# Altium footprint library CONNECTOR.PCBLIB: 232 footprints (part 8 of 15)
Each footprint in its own frame and in the unit in brackets; x right, y up, seen from the top. Pads: shape width x height; smd on the part's side, far side on the other; paste and mask are expansions set on the pad; w line width, h text height; cw(c..) or ccw(c..) is an arc to the next point about the centre after c.
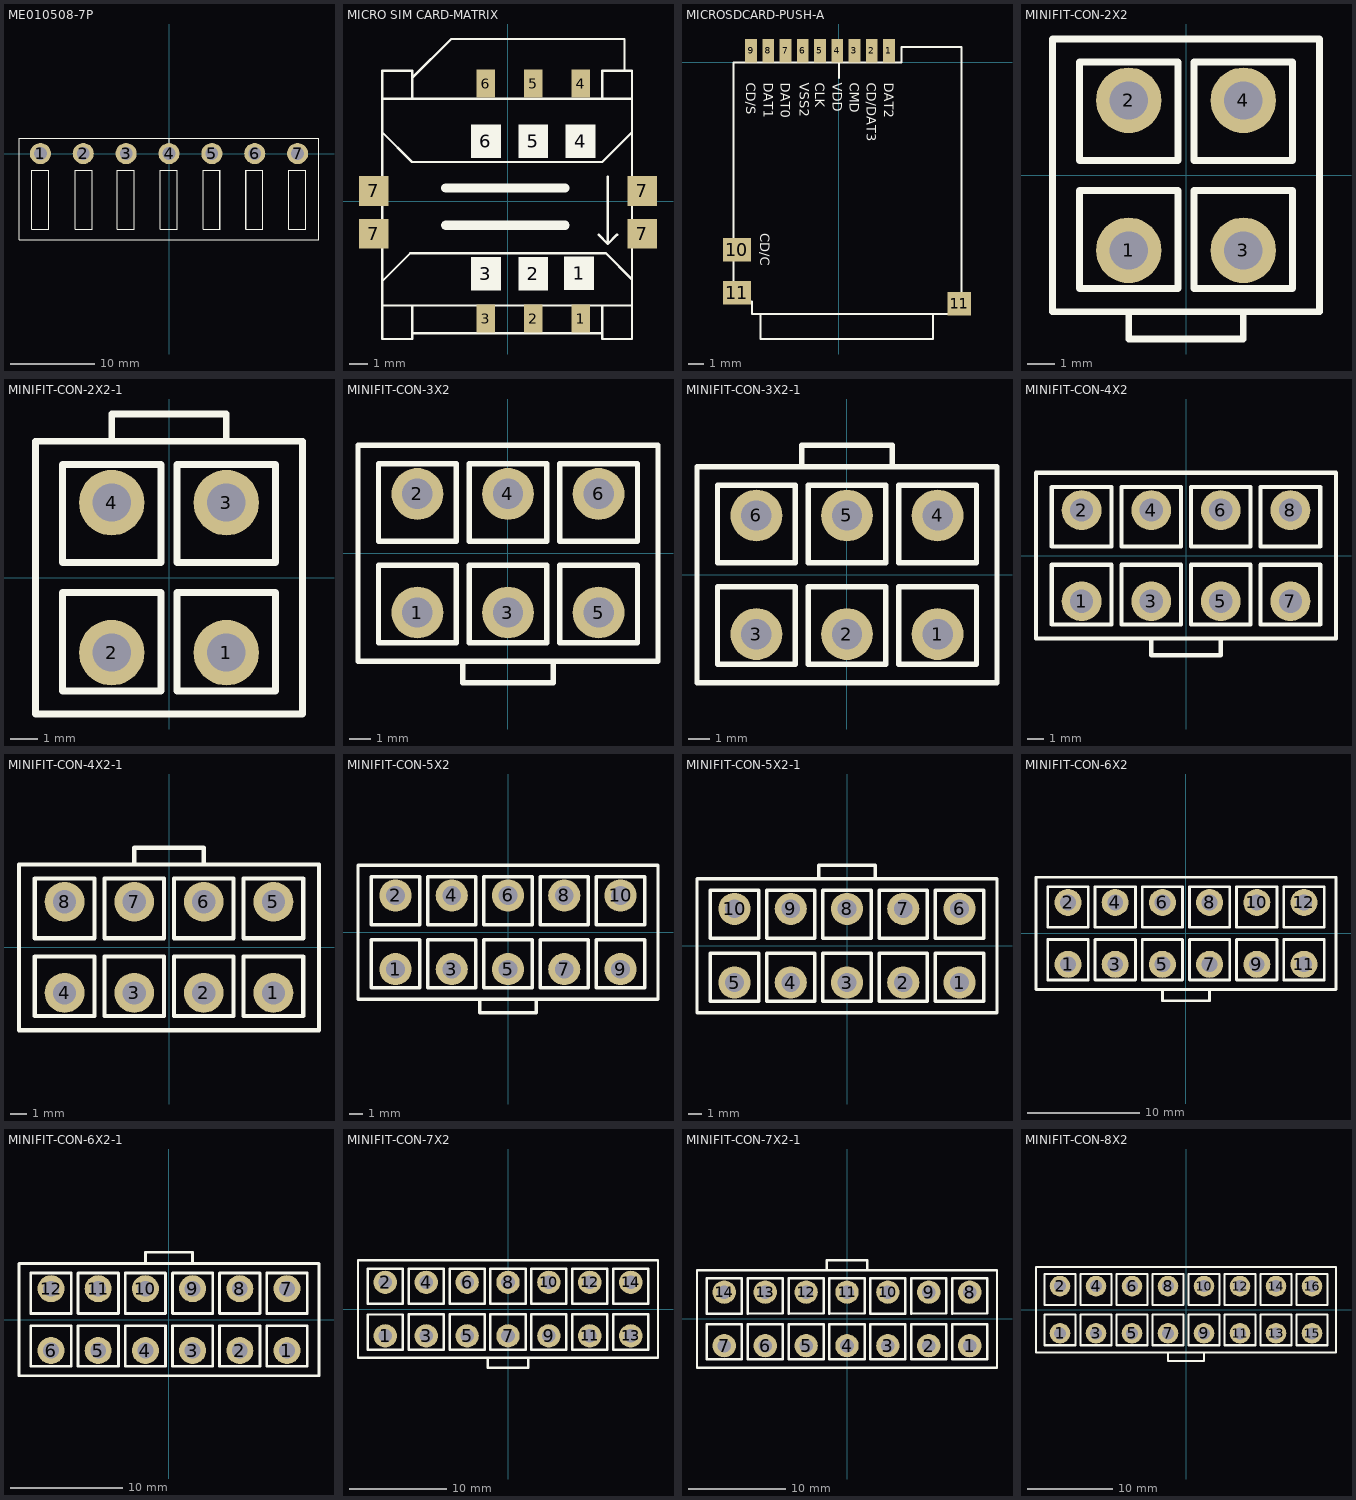
[diagram p7: the footprints below, top view; thin cyan lines are the x and y axes]

## ME010508-7P [mm]
pads (7):
  round 2.5 hole 1.5: 1(-15.24,0) 2(-10.16,0) 3(-5.08,0) 4(0,0) 5(5.08,0) 6(10.16,0) 7(15.24,0)
TopOverlay:
  lines w0.127: 0,0 0,1.8 ; -17.78,-10.2 17.78,-10.2 17.78,1.8 -17.78,1.8 -17.78,-10.2 ; -16.24,-9 -16.24,-2 -14.24,-2 -14.24,-9 -16.24,-9 ; -11.12,-9 -11.12,-2 -9.12,-2 -9.12,-9 -11.12,-9 ; -6.12,-9 -6.12,-2 -4.12,-2 -4.12,-9 -6.12,-9 ; -1.04,-9 -1.04,-2 0.96,-2 0.96,-9 -1.04,-9 ; -1.02,-9 -1.02,-2 0.98,-2 0.98,-9 -1.02,-9 ; 4.04,-9 4.04,-2 6.04,-2 6.04,-9 4.04,-9 ; 4.06,-9 4.06,-2 6.06,-2 6.06,-9 4.06,-9 ; 9.12,-9 9.12,-2 11.12,-2 11.12,-9 9.12,-9 ; 9.14,-9 9.14,-2 11.14,-2 11.14,-9 9.14,-9 ; 14.22,-9 14.22,-2 16.22,-2 16.22,-9 14.22,-9

## MICRO SIM CARD-MATRIX [mm]
pads (16):
  rect 1.6x1.8 on Top Overlay: 1(3.815,-3.86) 2(1.355,-3.9) 3(-1.185,-3.9) 4(3.895,3.22) 5(1.355,3.22) 6(-1.185,3.22)
  rect 1x1.5 smd: 1(3.895,-6.3) 2(1.355,-6.3) 3(-1.185,-6.3) 4(3.895,6.3) 5(1.355,6.3) 6(-1.185,6.3)
  rect 1.6x1.6 smd: 7(-7.205,-1.75) 7(-7.205,0.55) 7(7.205,-1.75) 7(7.205,0.55)
TopOverlay:
  lines w0.127: -6.745,-4.3 -5.245,-2.8 5.255,-2.8 6.655,-4.2 ; -6.745,3.7 -5.145,2.1 5.055,2.1 6.655,3.7 ; -5.145,-7.1 5.055,-7.1 ; -5.145,-5.6 -5.145,-7.4 -6.745,-7.4 -6.745,-5.6 ; -5.145,5.5 -5.145,7 -6.745,7 -6.745,5.5 ; -5.145,6.6 -3.045,8.7 6.255,8.7 6.255,7 ; 4.855,-1.8 5.355,-2.3 ; 5.055,-5.6 5.055,-7.4 6.655,-7.4 6.655,-5.6 ; 5.055,5.5 5.055,7 6.655,7 6.655,5.5 ; 5.355,1.3 5.355,-2.3 ; 5.855,-1.8 5.355,-2.3 ; -6.745,-5.6 6.655,-5.6 ; -6.745,-5.6 -6.745,5.5 ; -6.745,5.5 6.655,5.5 ; 6.655,-5.6 6.655,5.5
  lines w0.5: -3.345,-1.3 3.055,-1.3 ; -3.345,0.7 3.055,0.7

## MICROSDCARD-PUSH-A [mm]
pads (12):
  rect 0.75x1.5 smd: 1(3.2,0.75) 2(2.1,0.75) 3(1,0.75) 4(-0.1,0.75) 5(-1.2,0.75) 6(-2.3,0.75) 7(-3.4,0.75) 8(-4.5,0.75) 9(-5.6,0.75)
  rect 1.8x1.5 smd: 10(-6.5,-11.95) 11(-6.5,-14.7)
  rect 1.5x1.5 smd: 11(7.7,-15.4)
TopOverlay:
  lines w0.127: -6.725,-0.025 -6.725,-15.25 -5.525,-15.25 -5.525,-16.05 7.825,-16.05 7.825,1 4,1 4,0 -6.725,0 ; -5,-16.05 -5,-17.65 6,-17.65 6,-16.05 ; 0,-1 0,0
  text "DAT2" at 2.9,-1.3 h0.6
  text "CD/C" at -5,-10.9 h0.6
  text "CD/S" at -5.9,-1.3 h0.6
  text "DAT1" at -4.8,-1.3 h0.6
  text "DAT0" at -3.7,-1.3 h0.6
  text "VSS2" at -2.5,-1.3 h0.6
  text "CLK" at -1.5,-1.3 h0.6
  text "VDD" at -0.4,-1.3 h0.6
  text "CMD" at 0.7,-1.3 h0.6
  text "CD/DAT3" at 1.8,-1.3 h0.6

## MINIFIT-CON-2X2 [mm]
pads (4):
  round 2.4 hole 1.4: 1(-2.1,-2.75) 2(-2.1,2.75) 3(2.1,-2.75) 4(2.1,2.75)
TopOverlay:
  lines w0.254: -2.1,-5 -2.1,-6 2.1,-6 2.1,-5 ; -4.9,-5 -4.9,5 4.9,5 4.9,-5 -4.9,-5 ; -3.9,-4.15 -0.3,-4.15 -0.3,-0.55 -3.9,-0.55 -3.9,-4.15 ; -3.9,0.55 -0.3,0.55 -0.3,4.15 -3.9,4.15 -3.9,0.55 ; 0.3,-4.15 3.9,-4.15 3.9,-0.55 0.3,-0.55 0.3,-4.15 ; 0.3,0.55 3.9,0.55 3.9,4.15 0.3,4.15 0.3,0.55

## MINIFIT-CON-2X2-1 [mm]
pads (4):
  round 2.4 hole 1.4: 1(2.1,-2.75) 2(-2.1,-2.75) 3(2.1,2.75) 4(-2.1,2.75)
TopOverlay:
  lines w0.254: -2.1,5 -2.1,6 2.1,6 2.1,5 ; -4.9,-5 4.9,-5 4.9,5 -4.9,5 -4.9,-5 ; -3.9,-4.15 -3.9,-0.55 -0.3,-0.55 -0.3,-4.15 -3.9,-4.15 ; -3.9,0.55 -3.9,4.15 -0.3,4.15 -0.3,0.55 -3.9,0.55 ; 0.3,-4.15 0.3,-0.55 3.9,-0.55 3.9,-4.15 0.3,-4.15 ; 0.3,0.55 0.3,4.15 3.9,4.15 3.9,0.55 0.3,0.55

## MINIFIT-CON-3X2 [mm]
pads (6):
  round 2.4 hole 1.4: 1(-4.2,-2.75) 2(-4.2,2.75) 3(0,-2.75) 4(0,2.75) 5(4.2,-2.75) 6(4.2,2.75)
TopOverlay:
  lines w0.254: -2.1,-5 -2.1,-6 2.1,-6 2.1,-5 ; -6.95,-5 6.95,-5 6.95,5 -6.95,5 -6.95,-5 ; -6,-4.15 -6,-0.55 -2.4,-0.55 -2.4,-4.15 -6,-4.15 ; -6,0.55 -6,4.15 -2.4,4.15 -2.4,0.55 -6,0.55 ; -1.8,-4.15 -1.8,-0.55 1.8,-0.55 1.8,-4.15 -1.8,-4.15 ; -1.8,0.55 -1.8,4.15 1.8,4.15 1.8,0.55 -1.8,0.55 ; 2.4,-4.15 2.4,-0.55 6,-0.55 6,-4.15 2.4,-4.15 ; 2.4,0.55 2.4,4.15 6,4.15 6,0.55 2.4,0.55

## MINIFIT-CON-3X2-1 [mm]
pads (6):
  round 2.4 hole 1.4: 1(4.2,-2.75) 2(0,-2.75) 3(-4.2,-2.75) 4(4.2,2.75) 5(0,2.75) 6(-4.2,2.75)
TopOverlay:
  lines w0.254: -2.1,5 -2.1,6 2.1,6 2.1,5 ; -6.95,-5 6.95,-5 6.95,5 -6.95,5 -6.95,-5 ; -6,-4.15 -6,-0.55 -2.4,-0.55 -2.4,-4.15 -6,-4.15 ; -6,0.55 -6,4.15 -2.4,4.15 -2.4,0.55 -6,0.55 ; -1.8,-4.15 -1.8,-0.55 1.8,-0.55 1.8,-4.15 -1.8,-4.15 ; -1.8,0.55 -1.8,4.15 1.8,4.15 1.8,0.55 -1.8,0.55 ; 2.4,-4.15 2.4,-0.55 6,-0.55 6,-4.15 2.4,-4.15 ; 2.4,0.55 2.4,4.15 6,4.15 6,0.55 2.4,0.55

## MINIFIT-CON-4X2 [mm]
pads (8):
  round 2.4 hole 1.4: 1(-6.3,-2.75) 2(-6.3,2.75) 3(-2.1,-2.75) 4(-2.1,2.75) 5(2.1,-2.75) 6(2.1,2.75) 7(6.3,-2.75) 8(6.3,2.75)
TopOverlay:
  lines w0.254: -2.1,-5 -2.1,-6 2.1,-6 2.1,-5 ; -9.05,-5 9.05,-5 9.05,5 -9.05,5 -9.05,-5 ; -8.1,-4.15 -8.1,-0.55 -4.5,-0.55 -4.5,-4.15 -8.1,-4.15 ; -8.1,0.55 -8.1,4.15 -4.5,4.15 -4.5,0.55 -8.1,0.55 ; -3.9,-4.15 -3.9,-0.55 -0.3,-0.55 -0.3,-4.15 -3.9,-4.15 ; -3.9,0.55 -3.9,4.15 -0.3,4.15 -0.3,0.55 -3.9,0.55 ; 0.3,-4.15 0.3,-0.55 3.9,-0.55 3.9,-4.15 0.3,-4.15 ; 0.3,0.55 0.3,4.15 3.9,4.15 3.9,0.55 0.3,0.55 ; 4.5,-4.15 4.5,-0.55 8.1,-0.55 8.1,-4.15 4.5,-4.15 ; 4.5,0.55 4.5,4.15 8.1,4.15 8.1,0.55 4.5,0.55

## MINIFIT-CON-4X2-1 [mm]
pads (8):
  round 2.4 hole 1.4: 1(6.3,-2.75) 2(2.1,-2.75) 3(-2.1,-2.75) 4(-6.3,-2.75) 5(6.3,2.75) 6(2.1,2.75) 7(-2.1,2.75) 8(-6.3,2.75)
TopOverlay:
  lines w0.254: -2.1,5 -2.1,6 2.1,6 2.1,5 ; -9.05,-5 9.05,-5 9.05,5 -9.05,5 -9.05,-5 ; -8.1,-4.15 -8.1,-0.55 -4.5,-0.55 -4.5,-4.15 -8.1,-4.15 ; -8.1,0.55 -8.1,4.15 -4.5,4.15 -4.5,0.55 -8.1,0.55 ; -3.9,-4.15 -3.9,-0.55 -0.3,-0.55 -0.3,-4.15 -3.9,-4.15 ; -3.9,0.55 -3.9,4.15 -0.3,4.15 -0.3,0.55 -3.9,0.55 ; 0.3,-4.15 0.3,-0.55 3.9,-0.55 3.9,-4.15 0.3,-4.15 ; 0.3,0.55 0.3,4.15 3.9,4.15 3.9,0.55 0.3,0.55 ; 4.5,-4.15 4.5,-0.55 8.1,-0.55 8.1,-4.15 4.5,-4.15 ; 4.5,0.55 4.5,4.15 8.1,4.15 8.1,0.55 4.5,0.55

## MINIFIT-CON-5X2 [mm]
pads (10):
  round 2.4 hole 1.4: 1(-8.4,-2.75) 2(-8.4,2.75) 3(-4.2,-2.75) 4(-4.2,2.75) 5(0,-2.75) 6(0,2.75) 7(4.2,-2.75) 8(4.2,2.75) 9(8.4,-2.75) 10(8.4,2.75)
TopOverlay:
  lines w0.254: -2.1,-5 -2.1,-6 2.1,-6 2.1,-5 ; -11.2,-5 -11.2,5 11.2,5 11.2,-5 -11.2,-5 ; -10.2,-4.15 -6.6,-4.15 -6.6,-0.55 -10.2,-0.55 -10.2,-4.15 ; -10.2,0.55 -6.6,0.55 -6.6,4.15 -10.2,4.15 -10.2,0.55 ; -6,-4.15 -2.4,-4.15 -2.4,-0.55 -6,-0.55 -6,-4.15 ; -6,0.55 -2.4,0.55 -2.4,4.15 -6,4.15 -6,0.55 ; -1.8,-4.15 1.8,-4.15 1.8,-0.55 -1.8,-0.55 -1.8,-4.15 ; -1.8,0.55 1.8,0.55 1.8,4.15 -1.8,4.15 -1.8,0.55 ; 2.4,-4.15 6,-4.15 6,-0.55 2.4,-0.55 2.4,-4.15 ; 2.4,0.55 6,0.55 6,4.15 2.4,4.15 2.4,0.55 ; 6.6,-4.15 10.2,-4.15 10.2,-0.55 6.6,-0.55 6.6,-4.15 ; 6.6,0.55 6.6,4.15 10.2,4.15 10.2,0.55 6.6,0.55

## MINIFIT-CON-5X2-1 [mm]
pads (10):
  round 2.4 hole 1.4: 1(8.4,-2.75) 2(4.2,-2.75) 3(0,-2.75) 4(-4.2,-2.75) 5(-8.4,-2.75) 6(8.4,2.75) 7(4.2,2.75) 8(0,2.75) 9(-4.2,2.75) 10(-8.4,2.75)
TopOverlay:
  lines w0.254: -2.1,5 -2.1,6 2.1,6 2.1,5 ; -11.2,-5 -11.2,5 11.2,5 11.2,-5 -11.2,-5 ; -10.2,-4.15 -6.6,-4.15 -6.6,-0.55 -10.2,-0.55 -10.2,-4.15 ; -10.2,0.55 -6.6,0.55 -6.6,4.15 -10.2,4.15 -10.2,0.55 ; -6,-4.15 -2.4,-4.15 -2.4,-0.55 -6,-0.55 -6,-4.15 ; -6,0.55 -2.4,0.55 -2.4,4.15 -6,4.15 -6,0.55 ; -1.8,-4.15 1.8,-4.15 1.8,-0.55 -1.8,-0.55 -1.8,-4.15 ; -1.8,0.55 1.8,0.55 1.8,4.15 -1.8,4.15 -1.8,0.55 ; 2.4,-4.15 6,-4.15 6,-0.55 2.4,-0.55 2.4,-4.15 ; 2.4,0.55 6,0.55 6,4.15 2.4,4.15 2.4,0.55 ; 6.6,-4.15 10.2,-4.15 10.2,-0.55 6.6,-0.55 6.6,-4.15 ; 6.6,0.55 6.6,4.15 10.2,4.15 10.2,0.55 6.6,0.55

## MINIFIT-CON-6X2 [mm]
pads (12):
  round 2.4 hole 1.4: 1(-10.5,-2.75) 2(-10.5,2.75) 3(-6.3,-2.75) 4(-6.3,2.75) 5(-2.1,-2.75) 6(-2.1,2.75) 7(2.1,-2.75) 8(2.1,2.75) 9(6.3,-2.75) 10(6.3,2.75) 11(10.5,-2.75) 12(10.5,2.75)
TopOverlay:
  lines w0.254: -2.1,-5 -2.1,-6 2.1,-6 2.1,-5 ; -13.35,-5 13.35,-5 13.35,5 -13.35,5 -13.35,-5 ; -12.3,-4.15 -12.3,-0.55 -8.7,-0.55 -8.7,-4.15 -12.3,-4.15 ; -12.3,0.55 -12.3,4.15 -8.7,4.15 -8.7,0.55 -12.3,0.55 ; -8.1,-4.15 -8.1,-0.55 -4.5,-0.55 -4.5,-4.15 -8.1,-4.15 ; -8.1,0.55 -8.1,4.15 -4.5,4.15 -4.5,0.55 -8.1,0.55 ; -3.9,-4.15 -3.9,-0.55 -0.3,-0.55 -0.3,-4.15 -3.9,-4.15 ; -3.9,0.55 -3.9,4.15 -0.3,4.15 -0.3,0.55 -3.9,0.55 ; 0.3,-4.15 0.3,-0.55 3.9,-0.55 3.9,-4.15 0.3,-4.15 ; 0.3,0.55 0.3,4.15 3.9,4.15 3.9,0.55 0.3,0.55 ; 4.5,-4.15 4.5,-0.55 8.1,-0.55 8.1,-4.15 4.5,-4.15 ; 4.5,0.55 8.1,0.55 8.1,4.15 4.5,4.15 4.5,0.55 ; 8.7,-4.15 8.7,-0.55 12.3,-0.55 12.3,-4.15 8.7,-4.15 ; 8.7,0.55 8.7,4.15 12.3,4.15 12.3,0.55 8.7,0.55

## MINIFIT-CON-6X2-1 [mm]
pads (12):
  round 2.4 hole 1.4: 1(10.5,-2.75) 2(6.3,-2.75) 3(2.1,-2.75) 4(-2.1,-2.75) 5(-6.3,-2.75) 6(-10.5,-2.75) 7(10.5,2.75) 8(6.3,2.75) 9(2.1,2.75) 10(-2.1,2.75) 11(-6.3,2.75) 12(-10.5,2.75)
TopOverlay:
  lines w0.254: -2.1,5 -2.1,6 2.1,6 2.1,5 ; -13.35,-5 -13.35,5 13.35,5 13.35,-5 -13.35,-5 ; -12.3,-4.15 -8.7,-4.15 -8.7,-0.55 -12.3,-0.55 -12.3,-4.15 ; -12.3,0.55 -8.7,0.55 -8.7,4.15 -12.3,4.15 -12.3,0.55 ; -8.1,-4.15 -4.5,-4.15 -4.5,-0.55 -8.1,-0.55 -8.1,-4.15 ; -8.1,0.55 -4.5,0.55 -4.5,4.15 -8.1,4.15 -8.1,0.55 ; -3.9,-4.15 -0.3,-4.15 -0.3,-0.55 -3.9,-0.55 -3.9,-4.15 ; -3.9,0.55 -0.3,0.55 -0.3,4.15 -3.9,4.15 -3.9,0.55 ; 0.3,-4.15 3.9,-4.15 3.9,-0.55 0.3,-0.55 0.3,-4.15 ; 0.3,0.55 3.9,0.55 3.9,4.15 0.3,4.15 0.3,0.55 ; 4.5,-4.15 8.1,-4.15 8.1,-0.55 4.5,-0.55 4.5,-4.15 ; 4.5,0.55 4.5,4.15 8.1,4.15 8.1,0.55 4.5,0.55 ; 8.7,-4.15 12.3,-4.15 12.3,-0.55 8.7,-0.55 8.7,-4.15 ; 8.7,0.55 12.3,0.55 12.3,4.15 8.7,4.15 8.7,0.55

## MINIFIT-CON-7X2 [mm]
pads (14):
  round 2.4 hole 1.4: 1(-12.6,-2.75) 2(-12.6,2.75) 3(-8.4,-2.75) 4(-8.4,2.75) 5(-4.2,-2.75) 6(-4.2,2.75) 7(0,-2.75) 8(0,2.75) 9(4.2,-2.75) 10(4.2,2.75) 11(8.4,-2.75) 12(8.4,2.75) 13(12.6,-2.75) 14(12.6,2.75)
TopOverlay:
  lines w0.254: -2.1,-5 -2.1,-6 2.1,-6 2.1,-5 ; -15.4,-5 15.4,-5 15.4,5 -15.4,5 -15.4,-5 ; -14.4,-4.15 -14.4,-0.55 -10.8,-0.55 -10.8,-4.15 -14.4,-4.15 ; -14.4,0.55 -14.4,4.15 -10.8,4.15 -10.8,0.55 -14.4,0.55 ; -10.2,-4.15 -10.2,-0.55 -6.6,-0.55 -6.6,-4.15 -10.2,-4.15 ; -10.2,0.55 -10.2,4.15 -6.6,4.15 -6.6,0.55 -10.2,0.55 ; -6,-4.15 -6,-0.55 -2.4,-0.55 -2.4,-4.15 -6,-4.15 ; -6,0.55 -6,4.15 -2.4,4.15 -2.4,0.55 -6,0.55 ; -1.8,-4.15 -1.8,-0.55 1.8,-0.55 1.8,-4.15 -1.8,-4.15 ; -1.8,0.55 -1.8,4.15 1.8,4.15 1.8,0.55 -1.8,0.55 ; 2.4,-4.15 2.4,-0.55 6,-0.55 6,-4.15 2.4,-4.15 ; 2.4,0.55 6,0.55 6,4.15 2.4,4.15 2.4,0.55 ; 6.6,-4.15 6.6,-0.55 10.2,-0.55 10.2,-4.15 6.6,-4.15 ; 6.6,0.55 6.6,4.15 10.2,4.15 10.2,0.55 6.6,0.55 ; 10.8,-4.15 10.8,-0.55 14.4,-0.55 14.4,-4.15 10.8,-4.15 ; 10.8,0.55 10.8,4.15 14.4,4.15 14.4,0.55 10.8,0.55

## MINIFIT-CON-7X2-1 [mm]
pads (14):
  round 2.4 hole 1.4: 1(12.6,-2.75) 2(8.4,-2.75) 3(4.2,-2.75) 4(0,-2.75) 5(-4.2,-2.75) 6(-8.4,-2.75) 7(-12.6,-2.75) 8(12.6,2.75) 9(8.4,2.75) 10(4.2,2.75) 11(0,2.75) 12(-4.2,2.75) 13(-8.4,2.75) 14(-12.6,2.75)
TopOverlay:
  lines w0.254: -2.1,5 -2.1,6 2.1,6 2.1,5 ; -15.4,-5 -15.4,5 15.4,5 15.4,-5 -15.4,-5 ; -14.4,-4.15 -10.8,-4.15 -10.8,-0.55 -14.4,-0.55 -14.4,-4.15 ; -14.4,0.55 -10.8,0.55 -10.8,4.15 -14.4,4.15 -14.4,0.55 ; -10.2,-4.15 -6.6,-4.15 -6.6,-0.55 -10.2,-0.55 -10.2,-4.15 ; -10.2,0.55 -6.6,0.55 -6.6,4.15 -10.2,4.15 -10.2,0.55 ; -6,-4.15 -2.4,-4.15 -2.4,-0.55 -6,-0.55 -6,-4.15 ; -6,0.55 -2.4,0.55 -2.4,4.15 -6,4.15 -6,0.55 ; -1.8,-4.15 1.8,-4.15 1.8,-0.55 -1.8,-0.55 -1.8,-4.15 ; -1.8,0.55 1.8,0.55 1.8,4.15 -1.8,4.15 -1.8,0.55 ; 2.4,-4.15 6,-4.15 6,-0.55 2.4,-0.55 2.4,-4.15 ; 2.4,0.55 2.4,4.15 6,4.15 6,0.55 2.4,0.55 ; 6.6,-4.15 10.2,-4.15 10.2,-0.55 6.6,-0.55 6.6,-4.15 ; 6.6,0.55 10.2,0.55 10.2,4.15 6.6,4.15 6.6,0.55 ; 10.8,-4.15 14.4,-4.15 14.4,-0.55 10.8,-0.55 10.8,-4.15 ; 10.8,0.55 14.4,0.55 14.4,4.15 10.8,4.15 10.8,0.55

## MINIFIT-CON-8X2 [mm]
pads (16):
  round 2.4 hole 1.4: 1(-14.7,-2.75) 2(-14.7,2.75) 3(-10.5,-2.75) 4(-10.5,2.75) 5(-6.3,-2.75) 6(-6.3,2.75) 7(-2.1,-2.75) 8(-2.1,2.75) 9(2.1,-2.75) 10(2.1,2.75) 11(6.3,-2.75) 12(6.3,2.75) 13(10.5,-2.75) 14(10.5,2.75) 15(14.7,-2.75) 16(14.7,2.75)
TopOverlay:
  lines w0.254: -2.1,-5 -2.1,-6 2.1,-6 2.1,-5 ; -17.5,-5 17.5,-5 17.5,5 -17.5,5 -17.5,-5 ; -16.5,-4.15 -16.5,-0.55 -12.9,-0.55 -12.9,-4.15 -16.5,-4.15 ; -16.5,0.55 -16.5,4.15 -12.9,4.15 -12.9,0.55 -16.5,0.55 ; -12.3,-4.15 -12.3,-0.55 -8.7,-0.55 -8.7,-4.15 -12.3,-4.15 ; -12.3,0.55 -12.3,4.15 -8.7,4.15 -8.7,0.55 -12.3,0.55 ; -8.1,-4.15 -8.1,-0.55 -4.5,-0.55 -4.5,-4.15 -8.1,-4.15 ; -8.1,0.55 -8.1,4.15 -4.5,4.15 -4.5,0.55 -8.1,0.55 ; -3.9,-4.15 -3.9,-0.55 -0.3,-0.55 -0.3,-4.15 -3.9,-4.15 ; -3.9,0.55 -3.9,4.15 -0.3,4.15 -0.3,0.55 -3.9,0.55 ; 0.3,-4.15 0.3,-0.55 3.9,-0.55 3.9,-4.15 0.3,-4.15 ; 0.3,0.55 3.9,0.55 3.9,4.15 0.3,4.15 0.3,0.55 ; 4.5,-4.15 4.5,-0.55 8.1,-0.55 8.1,-4.15 4.5,-4.15 ; 4.5,0.55 4.5,4.15 8.1,4.15 8.1,0.55 4.5,0.55 ; 8.7,-4.15 8.7,-0.55 12.3,-0.55 12.3,-4.15 8.7,-4.15 ; 8.7,0.55 8.7,4.15 12.3,4.15 12.3,0.55 8.7,0.55 ; 12.9,-4.15 12.9,-0.55 16.5,-0.55 16.5,-4.15 12.9,-4.15 ; 12.9,0.55 12.9,4.15 16.5,4.15 16.5,0.55 12.9,0.55